# Altium schematic symbol library B530C-13-F.SchLib: 1 symbol
Pins are listed as number, name and electrical type; pins without a type are passive.

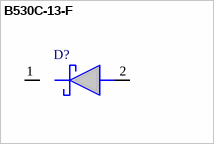
[diagram p0: symbol B530C-13-F]

## B530C-13-F
designator D?
Diodes Inc B530C-13-F, SMT Schottky Diode, 30V 5A, 2-Pin DO-214AB; Manufacturer_Name: Diodes Inc.; Geometry.Height: 2.5mm; Mouser Part Number: 621-B530C-13-F; Mouser Price/Stock: https://www.mouser.co.uk/ProductDetail/Diodes-Incorporated/B530C-13-F?qs=iysljaAVWRGB%252BaiZVguiyg%3D%3D; Manufacturer_Part_Number: B530C-13-F; Datasheet Link: https://www.diodes.com/assets/Datasheets/ds13012.pdf
footprint DIOM7959X250N
pins: 1 K, 2 A